# Altium footprint library TEP_243-Altium_Library.PcbLib: 103 footprints (part 1 of 7)
Each footprint in its own frame and in the unit in brackets; x right, y up, seen from the top. Pads: shape width x height; smd on the part's side, far side on the other; paste and mask are expansions set on the pad; w line width, h text height; cw(c..) or ccw(c..) is an arc to the next point about the centre after c.
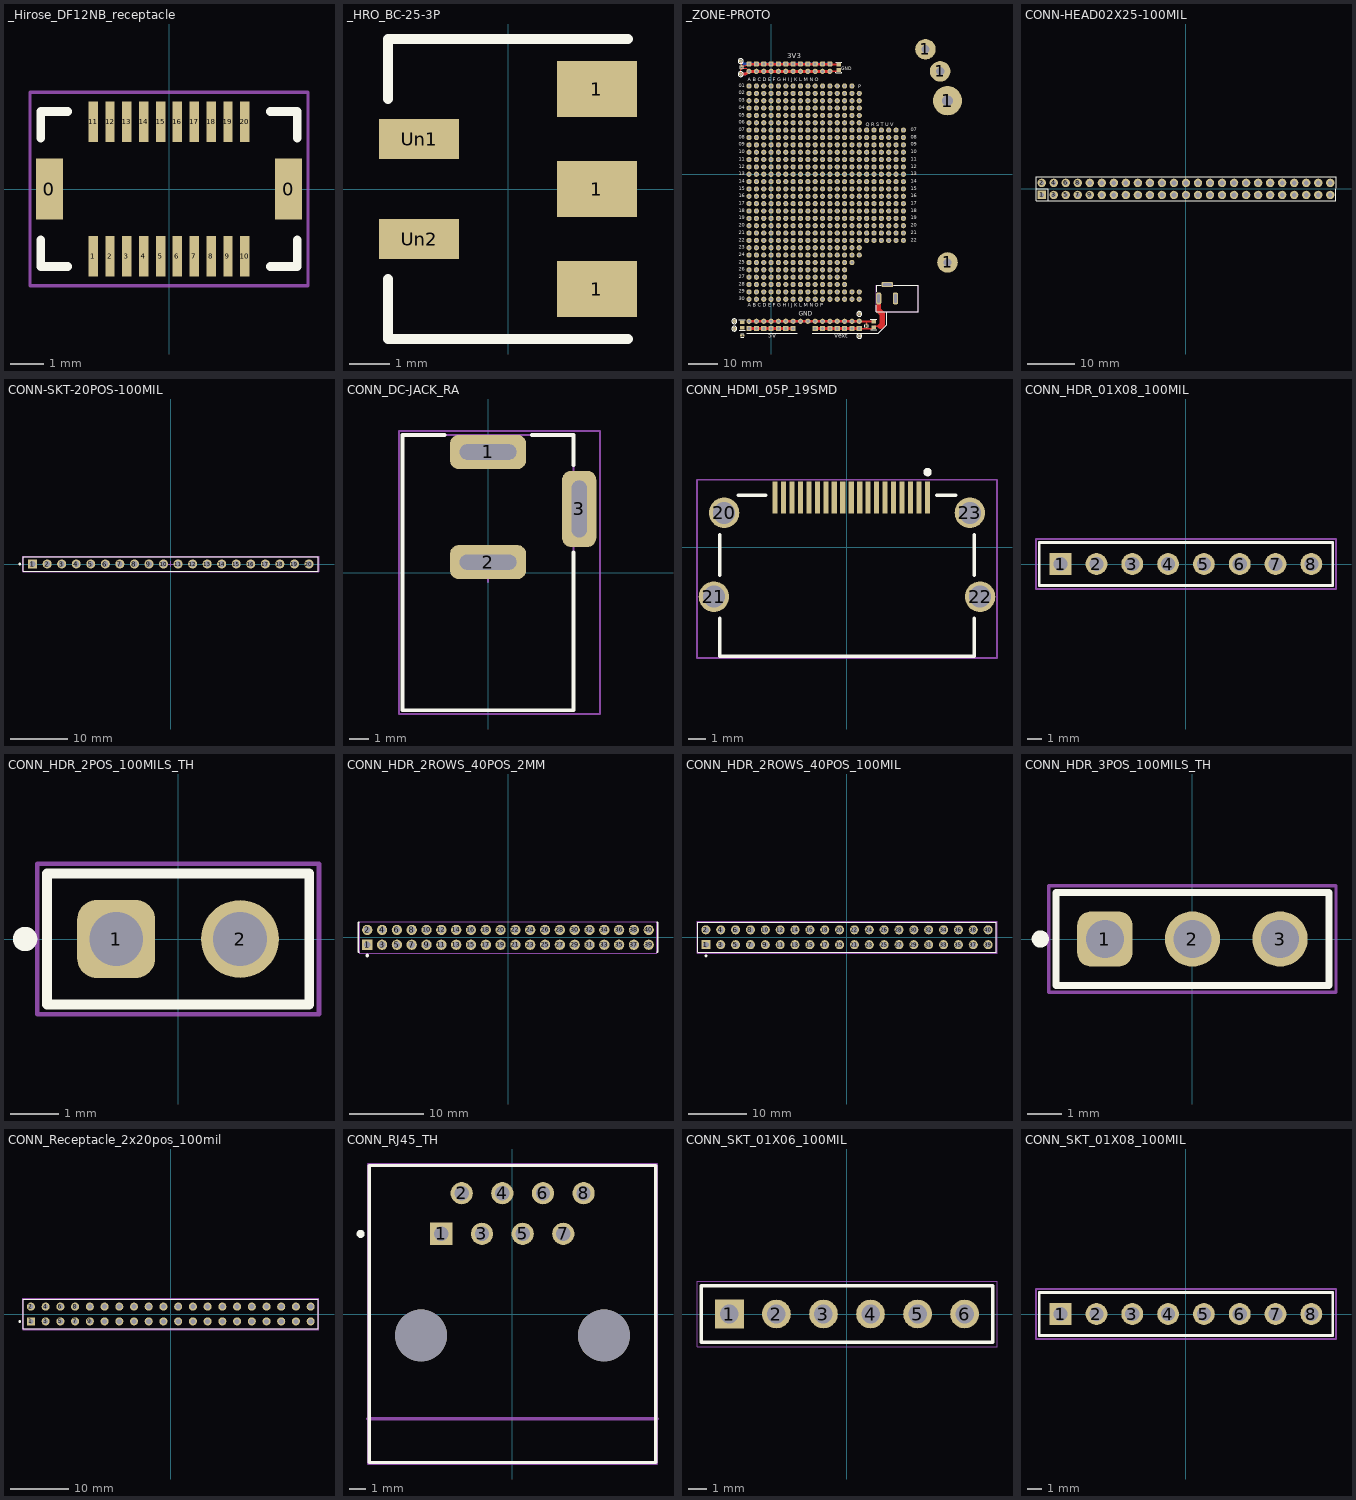
[diagram p0: the footprints below, top view; thin cyan lines are the x and y axes]

## _Hirose_DF12NB_receptacle [mm]
pads (22):
  rect 0.8x1.8 smd mask+0: 0(-3.55,0) 0(3.55,0)
  rect 0.28x1.2 smd mask+0: 1(-2.25,-2) 2(-1.75,-2) 3(-1.25,-2) 4(-0.75,-2) 5(-0.25,-2) 6(0.25,-2) 7(0.75,-2) 8(1.25,-2) 9(1.75,-2) 10(2.25,-2) 11(-2.25,2) 12(-1.75,2) 13(-1.25,2) 14(-0.75,2) 15(-0.25,2) 16(0.25,2) 17(0.75,2) 18(1.25,2) 19(1.75,2) 20(2.25,2)
Top Overlay:
  lines w0.254: -3.8,-1.5 -3.8,-2.3 -3,-2.3 ; -3.8,1.5 -3.8,2.3 -3,2.3 ; 3,-2.3 3.8,-2.3 3.8,-1.5 ; 3,2.3 3.8,2.3 3.8,1.5
Top Courtyard:
  lines w0.1: -4.125,-2.875 -4.125,2.875 4.125,2.875 4.125,-2.875 -4.125,-2.875
Top Designator:
  text ".Designator" at -2.503,-0.214 h1.5

## _HRO_BC-25-3P [mm]
pads (5):
  rect 2x1.4 smd mask+0: 1(2.225,-2.5) 1(2.225,0) 1(2.225,2.5)
  rect 2x1 smd mask+0: Un1(-2.225,1.25) Un2(-2.225,-1.25)
Top Overlay:
  lines w0.254: -3,-2.25 -3,-3.75 3,-3.75 ; -3,2.25 -3,3.75 3,3.75
Top Designator:
  text ".Designator" at -2.489,-0.212 h1.5

## _ZONE-PROTO [mm] "proto board 100mil"
pads (647):
  round 1.2 hole 0.61: 1(-12.7,-53.34) 1(-12.7,-50.8) 1(-10.485,34.58) 1(-10.485,39.08) 1(30.48,-55.88) 1(30.48,-48.26)
  rect 0.65x0.65 smd: 1(-10.435,-55.67) 1(-10.16,36.565) 1(33.015,-51.97) 2(-10.16,37.465) 2(-9.535,-55.67) 2(33.015,-52.87)
  rect 1.5x1.3 smd: 1(-9.985,-51.17) 1(23.34,36.005) 1(35.515,-50.97) 2(-9.985,-53.07) 2(23.34,37.905) 2(35.515,-52.87)
  rrect50% 1.8x4 hole 0.8 slot 3 at 90 deg: 1(37.165,-42.92) 2(42.965,-42.92)
  round 7.1 hole 2.85 paste-2539.97: 1(53.34,43.18) 1(58.42,35.56) 1(60.96,-30.48)
  round 10.1 hole 3.7 paste-2539.97: 1(60.96,25.4)
  rrect50% 4x1.8 hole 0.8 slot 3 at 0 deg: 3(40.165,-38.12)
  round 1.8 hole 1: pz(-7.62,-43.18) pz(-7.62,-40.64) pz(-7.62,-38.1) pz(-7.62,-35.56) pz(-7.62,-33.02) pz(-7.62,-30.48) pz(-7.62,-27.94) pz(-7.62,-25.4) pz(-7.62,-22.86) pz(-7.62,-20.32) pz(-7.62,-17.78) pz(-7.62,-15.24) pz(-7.62,-12.7) pz(-7.62,-10.16) pz(-7.62,-7.62) pz(-7.62,-5.08) pz(-7.62,-2.54) pz(-7.62,0) pz(-7.62,2.54) pz(-7.62,5.08) pz(-7.62,7.62) pz(-7.62,10.16) pz(-7.62,12.7) pz(-7.62,15.24) pz(-7.62,17.78) pz(-7.62,20.32) pz(-7.62,22.86) pz(-7.62,25.4) pz(-7.62,27.94) pz(-7.62,30.48) pz(-5.08,-43.18) pz(-5.08,-40.64) pz(-5.08,-38.1) pz(-5.08,-35.56) pz(-5.08,-33.02) pz(-5.08,-30.48) pz(-5.08,-27.94) pz(-5.08,-25.4) pz(-5.08,-22.86) pz(-5.08,-20.32) pz(-5.08,-17.78) pz(-5.08,-15.24) pz(-5.08,-12.7) pz(-5.08,-10.16) pz(-5.08,-7.62) pz(-5.08,-5.08) pz(-5.08,-2.54) pz(-5.08,0) pz(-5.08,2.54) pz(-5.08,5.08) pz(-5.08,7.62) pz(-5.08,10.16) pz(-5.08,12.7) pz(-5.08,15.24) pz(-5.08,17.78) pz(-5.08,20.32) pz(-5.08,22.86) pz(-5.08,25.4) pz(-5.08,27.94) pz(-5.08,30.48) pz(-2.54,-43.18) pz(-2.54,-40.64) pz(-2.54,-38.1) pz(-2.54,-35.56) pz(-2.54,-33.02) pz(-2.54,-30.48) pz(-2.54,-27.94) pz(-2.54,-25.4) pz(-2.54,-22.86) pz(-2.54,-20.32) pz(-2.54,-17.78) pz(-2.54,-15.24) pz(-2.54,-12.7) pz(-2.54,-10.16) pz(-2.54,-7.62) pz(-2.54,-5.08) pz(-2.54,-2.54) pz(-2.54,0) pz(-2.54,2.54) pz(-2.54,5.08) pz(-2.54,7.62) pz(-2.54,10.16) pz(-2.54,12.7) pz(-2.54,15.24) pz(-2.54,17.78) pz(-2.54,20.32) pz(-2.54,22.86) pz(-2.54,25.4) pz(-2.54,27.94) pz(-2.54,30.48) pz(0,-43.18) pz(0,-40.64) pz(0,-38.1) pz(0,-35.56) pz(0,-33.02) pz(0,-30.48) pz(0,-27.94) pz(0,-25.4) pz(0,-22.86) pz(0,-20.32) pz(0,-17.78) pz(0,-15.24) pz(0,-12.7) pz(0,-10.16) pz(0,-7.62) pz(0,-5.08) pz(0,-2.54) pz(0,0) pz(0,2.54) pz(0,5.08) pz(0,7.62) pz(0,10.16) pz(0,12.7) pz(0,15.24) pz(0,17.78) pz(0,20.32) pz(0,22.86) pz(0,25.4) pz(0,27.94) pz(0,30.48) pz(2.54,-43.18) pz(2.54,-40.64) pz(2.54,-38.1) pz(2.54,-35.56) pz(2.54,-33.02) pz(2.54,-30.48) pz(2.54,-27.94) pz(2.54,-25.4) pz(2.54,-22.86) pz(2.54,-20.32) pz(2.54,-17.78) pz(2.54,-15.24) pz(2.54,-12.7) pz(2.54,-10.16) pz(2.54,-7.62) pz(2.54,-5.08) pz(2.54,-2.54) pz(2.54,0) pz(2.54,2.54) pz(2.54,5.08) pz(2.54,7.62) pz(2.54,10.16) pz(2.54,12.7) pz(2.54,15.24) pz(2.54,17.78) pz(2.54,20.32) pz(2.54,22.86) pz(2.54,25.4) pz(2.54,27.94) pz(2.54,30.48) pz(5.08,-43.18) pz(5.08,-40.64) pz(5.08,-38.1) pz(5.08,-35.56) pz(5.08,-33.02) pz(5.08,-30.48) pz(5.08,-27.94) pz(5.08,-25.4) pz(5.08,-22.86) pz(5.08,-20.32) pz(5.08,-17.78) pz(5.08,-15.24) pz(5.08,-12.7) pz(5.08,-10.16) pz(5.08,-7.62) pz(5.08,-5.08) pz(5.08,-2.54) pz(5.08,0) pz(5.08,2.54) pz(5.08,5.08) pz(5.08,7.62) pz(5.08,10.16) pz(5.08,12.7) pz(5.08,15.24) pz(5.08,17.78) pz(5.08,20.32) pz(5.08,22.86) pz(5.08,25.4) pz(5.08,27.94) pz(5.08,30.48) pz(7.62,-43.18) pz(7.62,-40.64) pz(7.62,-38.1) pz(7.62,-35.56) pz(7.62,-33.02) pz(7.62,-30.48) pz(7.62,-27.94) pz(7.62,-25.4) pz(7.62,-22.86) pz(7.62,-20.32) pz(7.62,-17.78) pz(7.62,-15.24) pz(7.62,-12.7) pz(7.62,-10.16) pz(7.62,-7.62) pz(7.62,-5.08) pz(7.62,-2.54) pz(7.62,0) pz(7.62,2.54) pz(7.62,5.08) pz(7.62,7.62) pz(7.62,10.16) pz(7.62,12.7) pz(7.62,15.24) pz(7.62,17.78) pz(7.62,20.32) pz(7.62,22.86) pz(7.62,25.4) pz(7.62,27.94) pz(7.62,30.48) pz(10.16,-43.18) pz(10.16,-40.64) pz(10.16,-38.1) pz(10.16,-35.56) pz(10.16,-33.02) pz(10.16,-30.48) pz(10.16,-27.94) pz(10.16,-25.4) pz(10.16,-22.86) pz(10.16,-20.32) pz(10.16,-17.78) pz(10.16,-15.24) pz(10.16,-12.7) pz(10.16,-10.16) pz(10.16,-7.62) pz(10.16,-5.08) pz(10.16,-2.54) pz(10.16,0) pz(10.16,2.54) pz(10.16,5.08) pz(10.16,7.62) pz(10.16,10.16) pz(10.16,12.7) pz(10.16,15.24) pz(10.16,17.78) pz(10.16,20.32) pz(10.16,22.86) pz(10.16,25.4) pz(10.16,27.94) pz(10.16,30.48) pz(12.7,-43.18) pz(12.7,-40.64) pz(12.7,-38.1) pz(12.7,-35.56) pz(12.7,-33.02) pz(12.7,-30.48) pz(12.7,-27.94) pz(12.7,-25.4) pz(12.7,-22.86) pz(12.7,-20.32) pz(12.7,-17.78) pz(12.7,-15.24) pz(12.7,-12.7) pz(12.7,-10.16) pz(12.7,-7.62) pz(12.7,-5.08) pz(12.7,-2.54) pz(12.7,0) pz(12.7,2.54) pz(12.7,5.08) pz(12.7,7.62) pz(12.7,10.16) pz(12.7,12.7) pz(12.7,15.24) pz(12.7,17.78) pz(12.7,20.32) pz(12.7,22.86) pz(12.7,25.4) pz(12.7,27.94) pz(12.7,30.48) pz(15.24,-43.18) pz(15.24,-40.64) pz(15.24,-38.1) pz(15.24,-35.56) pz(15.24,-33.02) pz(15.24,-30.48) pz(15.24,-27.94) pz(15.24,-25.4) pz(15.24,-22.86) pz(15.24,-20.32) pz(15.24,-17.78) pz(15.24,-15.24) pz(15.24,-12.7) pz(15.24,-10.16) pz(15.24,-7.62) pz(15.24,-5.08) pz(15.24,-2.54) pz(15.24,0) pz(15.24,2.54) pz(15.24,5.08) pz(15.24,7.62) pz(15.24,10.16) pz(15.24,12.7) pz(15.24,15.24) pz(15.24,17.78) pz(15.24,20.32) pz(15.24,22.86) pz(15.24,25.4) pz(15.24,27.94) pz(15.24,30.48) pz(17.78,-43.18) pz(17.78,-40.64) pz(17.78,-38.1) pz(17.78,-35.56) pz(17.78,-33.02) pz(17.78,-30.48) pz(17.78,-27.94) pz(17.78,-25.4) pz(17.78,-22.86) pz(17.78,-20.32) pz(17.78,-17.78) pz(17.78,-15.24) pz(17.78,-12.7) pz(17.78,-10.16) pz(17.78,-7.62) pz(17.78,-5.08) pz(17.78,-2.54) pz(17.78,0) pz(17.78,2.54) pz(17.78,5.08) pz(17.78,7.62) pz(17.78,10.16) pz(17.78,12.7) pz(17.78,15.24) pz(17.78,17.78) pz(17.78,20.32) pz(17.78,22.86) pz(17.78,25.4) pz(17.78,27.94) pz(17.78,30.48) pz(20.32,-43.18) pz(20.32,-40.64) pz(20.32,-38.1) pz(20.32,-35.56) pz(20.32,-33.02) pz(20.32,-30.48) pz(20.32,-27.94) pz(20.32,-25.4) pz(20.32,-22.86) pz(20.32,-20.32) pz(20.32,-17.78) pz(20.32,-15.24) pz(20.32,-12.7) pz(20.32,-10.16) pz(20.32,-7.62) pz(20.32,-5.08) pz(20.32,-2.54) pz(20.32,0) pz(20.32,2.54) pz(20.32,5.08) pz(20.32,7.62) pz(20.32,10.16) pz(20.32,12.7) pz(20.32,15.24) pz(20.32,17.78) pz(20.32,20.32) pz(20.32,22.86) pz(20.32,25.4) pz(20.32,27.94) pz(20.32,30.48) pz(22.86,-43.18) pz(22.86,-40.64) pz(22.86,-38.1) pz(22.86,-35.56) pz(22.86,-33.02) pz(22.86,-30.48) pz(22.86,-27.94) pz(22.86,-25.4) pz(22.86,-22.86) pz(22.86,-20.32) pz(22.86,-17.78) pz(22.86,-15.24) pz(22.86,-12.7) pz(22.86,-10.16) pz(22.86,-7.62) pz(22.86,-5.08) pz(22.86,-2.54) pz(22.86,0) pz(22.86,2.54) pz(22.86,5.08) pz(22.86,7.62) pz(22.86,10.16) pz(22.86,12.7) pz(22.86,15.24) pz(22.86,17.78) pz(22.86,20.32) pz(22.86,22.86) pz(22.86,25.4) pz(22.86,27.94) pz(22.86,30.48) pz(25.4,-43.18) pz(25.4,-40.64) pz(25.4,-38.1) pz(25.4,-35.56) pz(25.4,-33.02) pz(25.4,-30.48) pz(25.4,-27.94) pz(25.4,-25.4) pz(25.4,-22.86) pz(25.4,-20.32) pz(25.4,-17.78) pz(25.4,-15.24) pz(25.4,-12.7) pz(25.4,-10.16) pz(25.4,-7.62) pz(25.4,-5.08) pz(25.4,-2.54) pz(25.4,0) pz(25.4,2.54) pz(25.4,5.08) pz(25.4,7.62) pz(25.4,10.16) pz(25.4,12.7) pz(25.4,15.24) pz(25.4,17.78) pz(25.4,20.32) pz(25.4,22.86) pz(25.4,25.4) pz(25.4,27.94) pz(25.4,30.48) pz(27.94,-43.18) pz(27.94,-40.64) pz(27.94,-30.48) pz(27.94,-27.94) pz(27.94,-25.4) pz(27.94,-22.86) pz(27.94,-20.32) pz(27.94,-17.78) pz(27.94,-15.24) pz(27.94,-12.7) pz(27.94,-10.16) pz(27.94,-7.62) pz(27.94,-5.08) pz(27.94,-2.54) pz(27.94,0) pz(27.94,2.54) pz(27.94,5.08) pz(27.94,7.62) pz(27.94,10.16) pz(27.94,12.7) pz(27.94,15.24) pz(27.94,17.78) pz(27.94,20.32) pz(27.94,22.86) pz(27.94,25.4) pz(27.94,27.94) pz(27.94,30.48) pz(30.48,-43.18) pz(30.48,-40.64) pz(30.48,-27.94) pz(30.48,-25.4) pz(30.48,-22.86) pz(30.48,-20.32) pz(30.48,-17.78) pz(30.48,-15.24) pz(30.48,-12.7) pz(30.48,-10.16) pz(30.48,-7.62) pz(30.48,-5.08) pz(30.48,-2.54) pz(30.48,0) pz(30.48,2.54) pz(30.48,5.08) pz(30.48,7.62) pz(30.48,10.16) pz(30.48,12.7) pz(30.48,15.24) pz(30.48,17.78) pz(30.48,20.32) pz(30.48,22.86) pz(30.48,25.4) pz(30.48,27.94) pz(33.02,-22.86) pz(33.02,-20.32) pz(33.02,-17.78) pz(33.02,-15.24) pz(33.02,-12.7) pz(33.02,-10.16) pz(33.02,-7.62) pz(33.02,-5.08) pz(33.02,-2.54) pz(33.02,0) pz(33.02,2.54) pz(33.02,5.08) pz(33.02,7.62) pz(33.02,10.16) pz(33.02,12.7) pz(33.02,15.24) pz(35.56,-22.86) pz(35.56,-20.32) pz(35.56,-17.78) pz(35.56,-15.24) pz(35.56,-12.7) pz(35.56,-10.16) pz(35.56,-7.62) pz(35.56,-5.08) pz(35.56,-2.54) pz(35.56,0) pz(35.56,2.54) pz(35.56,5.08) pz(35.56,7.62) pz(35.56,10.16) pz(35.56,12.7) pz(35.56,15.24) pz(38.1,-22.86) pz(38.1,-20.32) pz(38.1,-17.78) pz(38.1,-15.24) pz(38.1,-12.7) pz(38.1,-10.16) pz(38.1,-7.62) pz(38.1,-5.08) pz(38.1,-2.54) pz(38.1,0) pz(38.1,2.54) pz(38.1,5.08) pz(38.1,7.62) pz(38.1,10.16) pz(38.1,12.7) pz(38.1,15.24) pz(40.64,-22.86) pz(40.64,-20.32) pz(40.64,-17.78) pz(40.64,-15.24) pz(40.64,-12.7) pz(40.64,-10.16) pz(40.64,-7.62) pz(40.64,-5.08) pz(40.64,-2.54) pz(40.64,0) pz(40.64,2.54) pz(40.64,5.08) pz(40.64,7.62) pz(40.64,10.16) pz(40.64,12.7) pz(40.64,15.24) pz(43.18,-22.86) pz(43.18,-20.32) pz(43.18,-17.78) pz(43.18,-15.24) pz(43.18,-12.7) pz(43.18,-10.16) pz(43.18,-7.62) pz(43.18,-5.08) pz(43.18,-2.54) pz(43.18,0) pz(43.18,2.54) pz(43.18,5.08) pz(43.18,7.62) pz(43.18,10.16) pz(43.18,12.7) pz(43.18,15.24) pz(45.72,-22.86) pz(45.72,-20.32) pz(45.72,-17.78) pz(45.72,-15.24) pz(45.72,-12.7) pz(45.72,-10.16) pz(45.72,-7.62) pz(45.72,-5.08) pz(45.72,-2.54) pz(45.72,0) pz(45.72,2.54) pz(45.72,5.08) pz(45.72,7.62) pz(45.72,10.16) pz(45.72,12.7) pz(45.72,15.24) pzGND(-7.62,-50.8) pzGND(-7.62,35.56) pzGND(-5.08,-50.8) pzGND(-5.08,35.56) pzGND(-2.54,-50.8) pzGND(-2.54,35.56) pzGND(0,-50.8) pzGND(0,35.56) pzGND(2.54,-50.8) pzGND(2.54,35.56) pzGND(5.08,-50.8) pzGND(5.08,35.56) pzGND(7.62,-50.8) pzGND(7.62,35.56) pzGND(10.16,-50.8) pzGND(10.16,35.56) pzGND(12.7,-50.8) pzGND(12.7,35.56) pzGND(15.24,-50.8) pzGND(15.24,35.56) pzGND(17.78,-50.8) pzGND(17.78,35.56) pzGND(20.32,-50.8) pzGND(20.32,35.56) pzGND(22.86,-50.8) pzGND(25.4,-50.8) pzGND(27.94,-50.8) pzGND(30.48,-50.8)
  rrect50% 1.8x1.8 hole 1: pz3v3(-7.62,38.1) pz3v3(-5.08,38.1) pz3v3(-2.54,38.1) pz3v3(0,38.1) pz3v3(2.54,38.1) pz3v3(5.08,38.1) pz3v3(7.62,38.1) pz3v3(10.16,38.1) pz3v3(12.7,38.1) pz3v3(15.24,38.1) pz3v3(17.78,38.1) pz3v3(20.32,38.1)
  rect 1.8x1.8 hole 1: pz5V(-7.62,-53.34) pz5V(-5.08,-53.34) pz5V(-2.54,-53.34) pz5V(0,-53.34) pz5V(2.54,-53.34) pz5V(5.08,-53.34) pz5V(7.62,-53.34) pzVext(15.24,-53.34) pzVext(17.78,-53.34) pzVext(20.32,-53.34) pzVext(22.86,-53.34) pzVext(25.4,-53.34) pzVext(27.94,-53.34) pzVext(30.48,-53.34)
Top Layer:
  lines w0.3: -10.485,34.58 -10.485,36.24 -10.16,36.565 -8.625,36.565 -7.62,35.56 ; -10.485,39.08 -10.485,38.918 -10.16,38.593 -10.16,37.465 -8.935,37.465 -8.807,37.593 -8.127,37.593 -7.62,38.1 ; 32.997,-50.885 33.015,-50.902 33.015,-51.97
  lines w0.6: 20.32,35.56 22.795,35.56 23.24,36.005 23.34,36.005 ; 20.32,37.905 23.34,37.905 ; 30.48,-53.34 34.945,-53.34 35.415,-52.87 ; 30.48,-50.8 30.565,-50.885 32.997,-50.885 35.43,-50.885 35.515,-50.97 ; 35.515,-52.87 35.849,-52.536 37.805,-52.536
  lines w1: -10.485,34.58 -10.447,34.618 -8.778,34.618 -7.836,35.56 -7.62,35.56 -5.08,35.56 -2.54,35.56 0,35.56 2.54,35.56 5.08,35.56 7.62,35.56 10.16,35.56 12.7,35.56 15.24,35.56 17.78,35.56 20.32,35.56 ; -7.62,-53.34 -5.08,-53.34 -2.54,-53.34 0,-53.34 2.54,-53.34 5.08,-53.34 7.62,-53.34 ; -7.62,-50.8 -5.08,-50.8 -2.54,-50.8 0,-50.8 2.54,-50.8 5.08,-50.8 7.62,-50.8 10.16,-50.8 12.7,-50.8 15.24,-50.8 17.78,-50.8 20.32,-50.8 22.86,-50.8 25.4,-50.8 27.94,-50.8 30.48,-50.8 ; -7.62,38.1 -7.522,38.002 20.223,38.002 20.32,37.905 ; 15.24,-53.34 17.78,-53.34 20.32,-53.34 22.86,-53.34 25.4,-53.34 27.94,-53.34 30.48,-53.34
  lines w1.5: 37.165,-47.07 37.165,-42.92
  lines w2: 37.165,-47.07 38.385,-48.29 38.385,-51.957 37.805,-52.536
Bottom Layer:
  lines w1: -10.485,34.58 -10.447,34.618 -8.778,34.618 -7.836,35.56 -7.62,35.56 -5.08,35.56 -2.54,35.56 0,35.56 2.54,35.56 5.08,35.56 7.62,35.56 10.16,35.56 12.7,35.56 15.24,35.56 17.78,35.56 20.32,35.56 ; -10.485,39.08 -9.505,38.1 -7.62,38.1 -5.08,38.1 -2.54,38.1 0,38.1 2.54,38.1 5.08,38.1 7.62,38.1 10.16,38.1 12.7,38.1 15.24,38.1 17.78,38.1 20.32,38.1 ; -7.62,-53.34 -5.08,-53.34 -2.54,-53.34 0,-53.34 2.54,-53.34 5.08,-53.34 7.62,-53.34 ; -7.62,-50.8 -5.08,-50.8 -2.54,-50.8 0,-50.8 2.54,-50.8 5.08,-50.8 7.62,-50.8 10.16,-50.8 12.7,-50.8 15.24,-50.8 17.78,-50.8 20.32,-50.8 22.86,-50.8 25.4,-50.8 27.94,-50.8 30.48,-50.8 ; 15.24,-53.34 17.78,-53.34 20.32,-53.34 22.86,-53.34 25.4,-53.34 27.94,-53.34 30.48,-53.34
Top Overlay:
  circle w0.203: c30.48,-55.88 r0.85
  circle w0.203: c30.48,-48.26 r0.85
  circle w0.203: c-12.7,-50.8 r0.85
  circle w0.203: c-12.7,-53.34 r0.85
  circle w0.203: c-10.485,39.08 r0.85
  circle w0.203: c-10.485,34.58 r0.85
  lines w0.15: -10.985,-53.845 -10.985,-53.945 -8.985,-53.945 -8.985,-53.845 ; -10.985,-50.395 -10.985,-50.295 -8.985,-50.295 -8.985,-50.395 ; -10.735,36.515 -10.735,37.515 ; -10.485,-56.245 -9.485,-56.245 ; -10.485,-55.095 -9.485,-55.095 ; -9.585,36.515 -9.585,37.515 ; 22.34,35.23 22.34,35.13 24.34,35.13 24.34,35.23 ; 22.34,38.68 22.34,38.78 24.34,38.78 24.34,38.68 ; 32.44,-52.92 32.44,-51.92 ; 33.59,-52.92 33.59,-51.92 ; 34.515,-53.645 34.515,-53.745 36.515,-53.745 36.515,-53.645 ; 34.515,-50.195 34.515,-50.095 36.515,-50.095 36.515,-50.195
  lines w0.2: 36.265,-45.22 36.265,-47.42 50.765,-47.42 50.765,-38.42 42.465,-38.42 ; 36.265,-40.62 36.265,-38.42 37.865,-38.42
  lines w0.3: -8.485,-54.92 9.015,-54.92 ; 14.265,-54.92 37.015,-54.92 40.015,-51.92 40.015,-47.677
  text "07" at 48.32,14.855 h1.27
  text "08" at 48.32,12.315 h1.27
  text "09" at 48.32,9.775 h1.27
  text "10" at 48.32,7.235 h1.27
  text "11" at 48.32,4.695 h1.27
  text "12" at 48.32,2.155 h1.27
  text "13" at 48.32,-0.385 h1.27
  text "14" at 48.32,-2.925 h1.27
  text "15" at 48.32,-5.465 h1.27
  text "16" at 48.32,-8.005 h1.27
  text "17" at 48.32,-10.545 h1.27
  text "18" at 48.32,-13.085 h1.27
  text "19" at 48.32,-15.625 h1.27
  text "20" at 48.32,-18.165 h1.27
  text "21" at 48.32,-20.705 h1.27
  text "22" at 48.32,-23.245 h1.27
  text "Q R S T U V" at 32.765,16.58 h1.27
  text "04" at -11.18,22.475 h1.27
  text "05" at -11.18,19.935 h1.27
  text "30" at -11.18,-43.565 h1.27
  text "29" at -11.18,-41.025 h1.27
  text "28" at -11.18,-38.485 h1.27
  text "27" at -11.18,-35.945 h1.27
  text "26" at -11.18,-33.405 h1.27
  text "25" at -11.18,-30.865 h1.27
  text "24" at -11.18,-28.325 h1.27
  text "23" at -11.18,-25.785 h1.27
  text "22" at -11.18,-23.245 h1.27
  text "21" at -11.18,-20.705 h1.27
  text "20" at -11.18,-18.165 h1.27
  text "19" at -11.18,-15.625 h1.27
  text "18" at -11.18,-13.085 h1.27
  text "17" at -11.18,-10.545 h1.27
  text "16" at -11.18,-8.005 h1.27
  text "15" at -11.18,-5.465 h1.27
  text "14" at -11.18,-2.925 h1.27
  text "13" at -11.18,-0.385 h1.27
  text "12" at -11.18,2.155 h1.27
  text "11" at -11.18,4.695 h1.27
  text "10" at -11.18,7.235 h1.27
  text "09" at -11.18,9.775 h1.27
  text "08" at -11.18,12.315 h1.27
  text "07" at -11.18,14.855 h1.27
  text "06" at -11.18,17.395 h1.27
  text "03" at -11.18,25.015 h1.27
  text "02" at -11.18,27.555 h1.27
  text "01" at -11.18,30.095 h1.27
  text "A B C D E F G H I J K L M N O" at -8.023,32.15 h1.27
  text "P" at 30.115,29.63 h1.27
  text "3V3" at 5.515,39.33 h3
  text "GND" at 24.265,35.352 h2
  text "A B C D E F G H I J K L M N O P" at -8.023,-45.85 h1.27
  text "GND" at 9.515,-49.42 h2.5
  text "Vext" at 21.765,-56.92 h2.5
  text "5V" at -0.985,-56.92 h2.5
Bottom Overlay:
  text "V U T S R Q" at 46.265,16.58 h1.27
  text "22" at 49.725,-23.245 h1.27
  text "21" at 49.725,-20.705 h1.27
  text "20" at 49.725,-18.165 h1.27
  text "19" at 49.725,-15.625 h1.27
  text "18" at 49.725,-13.085 h1.27
  text "17" at 49.725,-10.545 h1.27
  text "16" at 49.725,-8.005 h1.27
  text "15" at 49.725,-5.465 h1.27
  text "14" at 49.725,-2.925 h1.27
  text "13" at 49.725,-0.385 h1.27
  text "12" at 49.725,2.155 h1.27
  text "11" at 49.725,4.695 h1.27
  text "10" at 49.725,7.235 h1.27
  text "09" at 49.725,9.775 h1.27
  text "08" at 49.725,12.315 h1.27
  text "07" at 49.725,14.855 h1.27
  text "01" at -9.775,30.095 h1.27
  text "02" at -9.775,27.555 h1.27
  text "03" at -9.775,25.015 h1.27
  text "06" at -9.775,17.395 h1.27
  text "07" at -9.775,14.855 h1.27
  text "08" at -9.775,12.315 h1.27
  text "09" at -9.775,9.775 h1.27
  text "10" at -9.775,7.235 h1.27
  text "11" at -9.775,4.695 h1.27
  text "12" at -9.775,2.155 h1.27
  text "13" at -9.775,-0.385 h1.27
  text "14" at -9.775,-2.925 h1.27
  text "15" at -9.775,-5.465 h1.27
  text "16" at -9.775,-8.005 h1.27
  text "17" at -9.775,-10.545 h1.27
  text "18" at -9.775,-13.085 h1.27
  text "19" at -9.775,-15.625 h1.27
  text "20" at -9.775,-18.165 h1.27
  text "21" at -9.775,-20.705 h1.27
  text "22" at -9.775,-23.245 h1.27
  text "23" at -9.775,-25.785 h1.27
  text "24" at -9.775,-28.325 h1.27
  text "25" at -9.775,-30.865 h1.27
  text "26" at -9.775,-33.405 h1.27
  text "27" at -9.775,-35.945 h1.27
  text "28" at -9.775,-38.485 h1.27
  text "29" at -9.775,-41.025 h1.27
  text "30" at -9.775,-43.565 h1.27
  text "05" at -9.775,19.935 h1.27
  text "04" at -9.775,22.475 h1.27
  text "O N M L K J I H G F E D C B A" at 28.286,32.184 h1.27
  text "P" at 30.936,29.659 h1.27
  text "5V" at 1.765,-56.92 h2.5
  text "Vext" at 26.515,-56.92 h2.5
  text "GND" at 14.265,-49.42 h2.5
  text "GND" at 25.515,35.08 h2
  text "3V3" at 10.015,39.33 h3
  text "P O N M L K J I H G F E D C B A" at 30.786,-45.816 h1.27
Top Designator:
  text ".Designator" at 40.722,-45.079 h1
Top 3D Body:
  lines w0.1: 36.265,-47.42 36.265,-38.42 50.765,-38.42 50.765,-47.42 36.265,-47.42
3D body "694106301002.stp": height 10.75, standoff -3.75, extent 36.265,-47.42 50.765,-37.92
3D body "SW3dPS-0805 SMD Capacitor.STEP": height 0.78, standoff 0, extent 34.89,-52.92 36.14,-50.92
3D body "User Library-0402(1005M) Cap.STEP": height 0.51, standoff 0, extent 32.761,-52.928 33.269,-51.912
3D body "User Library-0402(1005M) Cap.STEP": height 0.51, standoff 0, extent -10.493,-55.924 -9.477,-55.416
3D body "SW3dPS-0805 SMD Capacitor.STEP": height 0.78, standoff 0, extent -10.61,-53.12 -9.36,-51.12
3D body "User Library-0402(1005M) Cap.STEP": height 0.51, standoff 0, extent -10.414,36.507 -9.906,37.523
3D body "SW3dPS-0805 SMD Capacitor.STEP": height 0.78, standoff 0, extent 22.715,35.955 23.965,37.955

## CONN-HEAD02X25-100MIL [mil]
pads (50):
  rect 70x70 hole 39.37: 1(-1200,-50)
  round 70 hole 39.37: 2(-1200,50) 3(-1100,-50) 4(-1100,50) 5(-1000,-50) 6(-1000,50) 7(-900,-50) 8(-900,50) 9(-800,-50) 10(-800,50) 11(-700,-50) 12(-700,50) 13(-600,-50) 14(-600,50) 15(-500,-50) 16(-500,50) 17(-400,-50) 18(-400,50) 19(-300,-50) 20(-300,50) 21(-200,-50) 22(-200,50) 23(-100,-50) 24(-100,50) 25(0,-50) 26(0,50) 27(100,-50) 28(100,50) 29(200,-50) 30(200,50) 31(300,-50) 32(300,50) 33(400,-50) 34(400,50) 35(500,-50) 36(500,50) 37(600,-50) 38(600,50) 39(700,-50) 40(700,50) 41(800,-50) 42(800,50) 43(900,-50) 44(900,50) 45(1000,-50) 46(1000,50) 47(1100,-50) 48(1100,50) 49(1200,-50) 50(1200,50)
Top Overlay:
  lines w5: -1246.46,0 -1151.57,0 -1151.57,-101.18
  lines w8: -1247.64,-100 1248.03,-100 1248.03,100 -1247.64,100 -1247.64,-100
3D body "SFH11-PBPC-D25-ST-BK.STEP": height 335, standoff -126, extent -1350,-158 1350,118

## CONN-SKT-20POS-100MIL [mm]
height 5
pads (20):
  rect 1.57x1.57 hole 1 paste-2539.97 mask+0: 1(-24.13,0)
  round 1.57 hole 1 paste-2539.97 mask+0: 2(-21.59,0) 3(-19.05,0) 4(-16.51,0) 5(-13.97,0) 6(-11.43,0) 7(-8.89,0) 8(-6.35,0) 9(-3.81,0) 10(-1.27,0) 11(1.27,0) 12(3.81,0) 13(6.35,0) 14(8.89,0) 15(11.43,0) 16(13.97,0) 17(16.51,0) 18(19.05,0) 19(21.59,0) 20(24.13,0)
Top Overlay:
  circle w0.25: c-26.381,0 r0.125
  lines w0.2: -25.781,-1.27 -25.781,1.27 25.781,1.27 25.781,-1.27 -25.781,-1.27
Top Component Center:
  lines w0.1: -0.5,0 0.5,0 ; 0,-0.5 0,0.5
Top Courtyard:
  lines w0.2: -25.881,-1.37 -25.881,1.37 25.881,1.37 25.881,-1.37 -25.881,-1.37
Top Assembly:
  lines w0.2: -25.881,-1.37 -25.881,1.37 25.881,1.37 25.881,-1.37 -25.881,-1.37
Top Designator:
  text ".Designator" at 0,0.188 h1
Top 3D Body:
  lines w0.2: -25.781,-1.27 -25.781,1.27 25.781,1.27 25.781,-1.27 -25.781,-1.27
3D body "Conn_Samtec_Inc_ESQ-120-14-G-S_eec.STEP": height 0.25, standoff 0, extent -25.881,-1.37 25.881,1.37

## CONN_DC-JACK_RA [mm] "DC Power Jack Right Angle"
height 10.7
pads (3):
  rrect50% 4x1.8 hole 0.8 slot 3 at 0 deg: 1(0,6.35) 2(0,0.55)
  rrect50% 1.8x4 hole 0.8 slot 3 at 90 deg: 3(4.8,3.35)
Top Overlay:
  lines w0.2: -2.3,7.25 -4.5,7.25 -4.5,-7.25 4.5,-7.25 4.5,1.05 ; 2.3,7.25 4.5,7.25 4.5,5.65
Top Courtyard:
  lines w0.1: -0.5,0 0.5,0 ; 0,-0.5 0,0.5 ; -4.7,-7.45 -4.7,7.45 5.9,7.45 5.9,-7.45 -4.7,-7.45
Top Designator:
  text ".Designator" at -2.159,2.793 h1
Top 3D Body:
  lines w0.1: -4.5,-7.25 4.5,-7.25 4.5,7.25 -4.5,7.25 -4.5,-7.25
3D body "694106301002.stp": height 10.75, standoff -3.75, extent -4.5,-7.25 5,7.25

## CONN_HDMI_05P_19SMD [mm] "HDMI Receptacle Connector 19 Position Surface Mount, Right Angle Body 15x9.5mm, Pitch 0.5mm"
height 6.18
pads (23):
  rect 0.3x1.9 smd: 1(4.75,2.925) 2(4.25,2.925) 3(3.75,2.925) 4(3.25,2.925) 5(2.75,2.925) 6(2.25,2.925) 7(1.75,2.925) 8(1.25,2.925) 9(0.75,2.925) 10(0.25,2.925) 11(-0.25,2.925) 12(-0.75,2.925) 13(-1.25,2.925) 14(-1.75,2.925) 15(-2.25,2.925) 16(-2.75,2.925) 17(-3.25,2.925) 18(-3.75,2.925) 19(-4.25,2.925)
  round 1.8 hole 1.3: 20(-7.25,2.025) 21(-7.85,-2.925) 22(7.85,-2.925) 23(7.25,2.025)
Top Overlay:
  circle w0.25: c4.75,4.425 r0.125
  lines w0.2: -7.5,-4.195 -7.5,-6.445 7.5,-6.445 7.5,-4.195 ; -7.5,-1.655 -7.5,0.735 ; -6.42,3.055 -4.8,3.055 ; 5.3,3.055 6.42,3.055 ; 7.5,-1.655 7.5,0.735
Top Courtyard:
  lines w0.1: -8.85,-6.545 -8.85,3.975 8.85,3.975 8.85,-6.545 -8.85,-6.545
Top Designator:
  text ".Designator" at -2.489,-0.339 h1.5
3D body "10029449-001LF.stp": height 6.11, standoff -1.89, extent -8.1,-6.445 8.1,3.455

## CONN_HDR_01X08_100MIL [mm] "SQ Post Header, 1x8 Pins, Vertical, 2.54mm Pitch, Male"
height 8.51
pads (8):
  rect 1.55x1.55 hole 1: 1(-8.89,0)
  round 1.55 hole 1: 2(-6.35,0) 3(-3.81,0) 4(-1.27,0) 5(1.27,0) 6(3.81,0) 7(6.35,0) 8(8.89,0)
Top Overlay:
  lines w0.2: 10.414,-1.524 -10.415,-1.524 -10.415,1.524 10.414,1.524 ; 10.415,-1.524 10.415,1.524
Top Courtyard:
  lines w0.125: -10.64,-1.778 -10.64,1.778 10.64,1.778 10.64,-1.778 -10.64,-1.778
3D body "61300811121+(rev1).stp": height 8.62, standoff -2.92, extent -10.16,-1.27 10.16,1.27

## CONN_HDR_2POS_100MILS_TH [mm] "Pin Header, pitch 2.54 mm, THT, Vertical, single row, 2p"
height 8.54
pads (2):
  rrect50% 1.6x1.6 hole 1.1: 1(-1.27,0)
  round 1.6 hole 1.1: 2(1.27,0)
Top Overlay:
  circle w0.25: c-3.14,0 r0.125
  lines w0.2: -2.69,-1.345 -2.69,1.345 2.69,1.345 2.69,-1.345 -2.69,-1.345
Top Courtyard:
  lines w0.1: -2.89,-1.545 2.89,-1.545 2.89,1.545 -2.89,1.545 -2.89,-1.545
Top Designator:
  text ".Designator" at -2.272,-0.229 h1
3D body "61300211121.stp": height 8.57, standoff -2.97, extent -2.54,-1.27 2.54,1.27

## CONN_HDR_2ROWS_40POS_2MM [mm]
pads (40):
  rect 1.39x1.39 hole 0.89 paste-2539.97 mask+0: 1(-19,-1)
  round 1.39 hole 0.89 paste-2539.97 mask+0: 2(-19,1) 3(-17,-1) 4(-17,1) 5(-15,-1) 6(-15,1) 7(-13,-1) 8(-13,1) 9(-11,-1) 10(-11,1) 11(-9,-1) 12(-9,1) 13(-7,-1) 14(-7,1) 15(-5,-1) 16(-5,1) 17(-3,-1) 18(-3,1) 19(-1,-1) 20(-1,1) 21(1,-1) 22(1,1) 23(3,-1) 24(3,1) 25(5,-1) 26(5,1) 27(7,-1) 28(7,1) 29(9,-1) 30(9,1) 31(11,-1) 32(11,1) 33(13,-1) 34(13,1) 35(15,-1) 36(15,1) 37(17,-1) 38(17,1) 39(19,-1) 40(19,1)
Top Overlay:
  circle w0.25: c-19,-2.45 r0.125
  lines w0.2: -20.07,-2.032 -20.25,-2.032 -20.25,2.032 -20.07,2.032 ; 20.07,-2.032 20.25,-2.032 20.25,2.032 20.07,2.032
Top Courtyard:
  lines w0.1: -20.1,-2.132 20.1,-2.132 20.1,2.132 -20.1,2.132 -20.1,-2.132
Top Designator:
  text ".Designator" at -3.124,-0.339 h1.5
3D body "Conn_Samtec_TMM-120-03-L-D_eec.STEP": height 0.25, standoff 0, extent -20.1,-2.132 20.1,2.132

## CONN_HDR_2ROWS_40POS_100MIL [mm]
pads (40):
  rect 1.55x1.55 hole 1 paste-2539.97 mask+0: 1(-24.13,-1.27)
  round 1.55 hole 1 paste-2539.97 mask+0: 2(-24.13,1.27) 3(-21.59,-1.27) 4(-21.59,1.27) 5(-19.05,-1.27) 6(-19.05,1.27) 7(-16.51,-1.27) 8(-16.51,1.27) 9(-13.97,-1.27) 10(-13.97,1.27) 11(-11.43,-1.27) 12(-11.43,1.27) 13(-8.89,-1.27) 14(-8.89,1.27) 15(-6.35,-1.27) 16(-6.35,1.27) 17(-3.81,-1.27) 18(-3.81,1.27) 19(-1.27,-1.27) 20(-1.27,1.27) 21(1.27,-1.27) 22(1.27,1.27) 23(3.81,-1.27) 24(3.81,1.27) 25(6.35,-1.27) 26(6.35,1.27) 27(8.89,-1.27) 28(8.89,1.27) 29(11.43,-1.27) 30(11.43,1.27) 31(13.97,-1.27) 32(13.97,1.27) 33(16.51,-1.27) 34(16.51,1.27) 35(19.05,-1.27) 36(19.05,1.27) 37(21.59,-1.27) 38(21.59,1.27) 39(24.13,-1.27) 40(24.13,1.27)
Top Overlay:
  circle w0.25: c-24.13,-3.17 r0.125
  lines w0.2: -25.55,-2.6 -25.55,2.6 25.55,2.6 25.55,-2.6 -25.55,-2.6
Top Courtyard:
  lines w0.1: -25.65,-2.7 -25.65,2.7 25.65,2.7 25.65,-2.7 -25.65,-2.7
Top Designator:
  text ".Designator" at -2.272,-0.229 h1
Top 3D Body:
  lines w0.2: -25.55,-2.6 -25.55,2.6 25.55,2.6 25.55,-2.6 -25.55,-2.6
3D body "Conn_Sullins_PRPC020DAAN-RC_eec.STEP": height 0.25, standoff 0, extent -25.65,-2.7 25.65,2.7

## CONN_HDR_3POS_100MILS_TH [mm] "Pin Header, pitch 2.54 mm, THT, Vertical, single row, 3p"
height 8.54
pads (3):
  rrect50% 1.6x1.6 hole 1.1: 1(-2.54,0)
  round 1.6 hole 1.1: 2(0,0) 3(2.54,0)
Top Overlay:
  circle w0.25: c-4.41,0 r0.125
  lines w0.2: -3.96,-1.345 3.96,-1.345 3.96,1.345 -3.96,1.345 -3.96,-1.345
Top Courtyard:
  lines w0.1: -4.16,-1.545 -4.16,1.545 4.16,1.545 4.16,-1.545 -4.16,-1.545
Top Designator:
  text ".Designator" at -2.159,0.696 h1
3D body "61300311121.stp": height 8.57, standoff -2.97, extent -3.81,-1.27 3.81,1.27

## CONN_Receptacle_2x20pos_100mil [mm] "Connector Receptacle 2 rows  TH"
height 7.6
pads (40):
  rect 1.39x1.39 hole 0.89 paste-2539.97 mask+0: 1(-24.13,-1.27)
  round 1.39 hole 0.89 paste-2539.97 mask+0: 2(-24.13,1.27) 3(-21.59,-1.27) 4(-21.59,1.27) 5(-19.05,-1.27) 6(-19.05,1.27) 7(-16.51,-1.27) 8(-16.51,1.27) 9(-13.97,-1.27) 10(-13.97,1.27) 11(-11.43,-1.27) 12(-11.43,1.27) 13(-8.89,-1.27) 14(-8.89,1.27) 15(-6.35,-1.27) 16(-6.35,1.27) 17(-3.81,-1.27) 18(-3.81,1.27) 19(-1.27,-1.27) 20(-1.27,1.27) 21(1.27,-1.27) 22(1.27,1.27) 23(3.81,-1.27) 24(3.81,1.27) 25(6.35,-1.27) 26(6.35,1.27) 27(8.89,-1.27) 28(8.89,1.27) 29(11.43,-1.27) 30(11.43,1.27) 31(13.97,-1.27) 32(13.97,1.27) 33(16.51,-1.27) 34(16.51,1.27) 35(19.05,-1.27) 36(19.05,1.27) 37(21.59,-1.27) 38(21.59,1.27) 39(24.13,-1.27) 40(24.13,1.27)
Top Overlay:
  circle w0.25: c-26.065,-1.27 r0.125
  lines w0.2: -25.465,-2.58 25.465,-2.58 25.465,2.58 -25.465,2.58 -25.465,-2.58
Top Courtyard:
  lines w0.1: -25.565,-2.68 25.565,-2.68 25.565,2.68 -25.565,2.68 -25.565,-2.68
Top Designator:
  text ".Designator" at -2.032,-0.193 h1
Top 3D Body:
  lines w0.2: -25.465,-2.58 25.465,-2.58 25.465,2.58 -25.465,2.58 -25.465,-2.58
3D body "Conn_TE_Connectivity_7-534206-0_eec.STEP": height 0.25, standoff 0, extent -25.565,-2.68 25.565,2.68

## CONN_RJ45_TH [mm]
pads (10):
  rect 1.39x1.39 hole 0.89 paste-2539.97 mask+0: 1(-4.445,5.01)
  round 1.39 hole 0.89 paste-2539.97 mask+0: 2(-3.175,7.55) 3(-1.905,5.01) 4(-0.635,7.55) 5(0.635,5.01) 6(1.905,7.55) 7(3.175,5.01) 8(4.445,7.55)
  round 3.25 hole 3.25 unplated paste-2539.97 mask+0: ""(-5.715,-1.34) ""(5.715,-1.34)
Top Overlay:
  circle w0.25: c-9.49,5.01 r0.125
  lines w0.2: -8.955,-9.275 -8.955,9.275 8.955,9.275 8.955,-9.275 -8.955,-9.275
Top Courtyard:
  lines w0.1: -9.055,-9.375 -9.055,9.375 9.055,9.375 9.055,-9.375 -9.055,-9.375
Top Designator:
  text ".Designator" at 0,0.188 h1
Top 3D Body:
  lines w0.2: -9.055,-6.55 9.055,-6.55 ; -8.955,-9.275 -8.955,9.275 8.955,9.275 8.955,-9.275 -8.955,-9.275
3D body "Conn_TE_Connectivity_5555162-1_eec.STEP": height 0.25, standoff 0, extent -9.055,-9.375 9.055,9.375

## CONN_SKT_01X06_100MIL [mm] "SQ Post Socket, 1x6 Pins, Vertical, 2.54mm Pitch, Female"
height 8.51
pads (6):
  rect 1.55x1.55 hole 1: 1(-6.35,0)
  round 1.55 hole 1: 2(-3.81,0) 3(-1.27,0) 4(1.27,0) 5(3.81,0) 6(6.35,0)
Top Overlay:
  lines w0.2: -7.875,-1.524 -7.875,1.524 7.875,1.524 7.875,-1.524 -7.875,-1.524
Top Courtyard:
  lines w0.05: -8.1,-1.778 -8.1,1.778 8.1,1.778 8.1,-1.778 -8.1,-1.778
3D body "SLW-106-01-G-S.stp": height 4.57, standoff -2.92, extent -7.62,-1.27 7.62,1.27

## CONN_SKT_01X08_100MIL [mm] "SQ Post Socket, 1x8 Pins, Vertical, 2.54mm Pitch, Female"
height 8.51
pads (8):
  rect 1.55x1.55 hole 1: 1(-8.89,0)
  round 1.55 hole 1: 2(-6.35,0) 3(-3.81,0) 4(-1.27,0) 5(1.27,0) 6(3.81,0) 7(6.35,0) 8(8.89,0)
Top Overlay:
  lines w0.2: 10.414,-1.524 -10.415,-1.524 -10.415,1.524 10.414,1.524 ; 10.415,-1.524 10.415,1.524
Top Courtyard:
  lines w0.125: -10.64,-1.778 10.64,-1.778 10.64,1.778 -10.64,1.778 -10.64,-1.778
3D body "SSW-108-01-G-S.stp": height 8.51, standoff -2.64, extent -10.414,-1.206 10.414,1.206